# Altium schematic symbol library USBC_to_DP.SchLib: 21 symbols
Pins are listed as number, name and electrical type; pins without a type are passive.

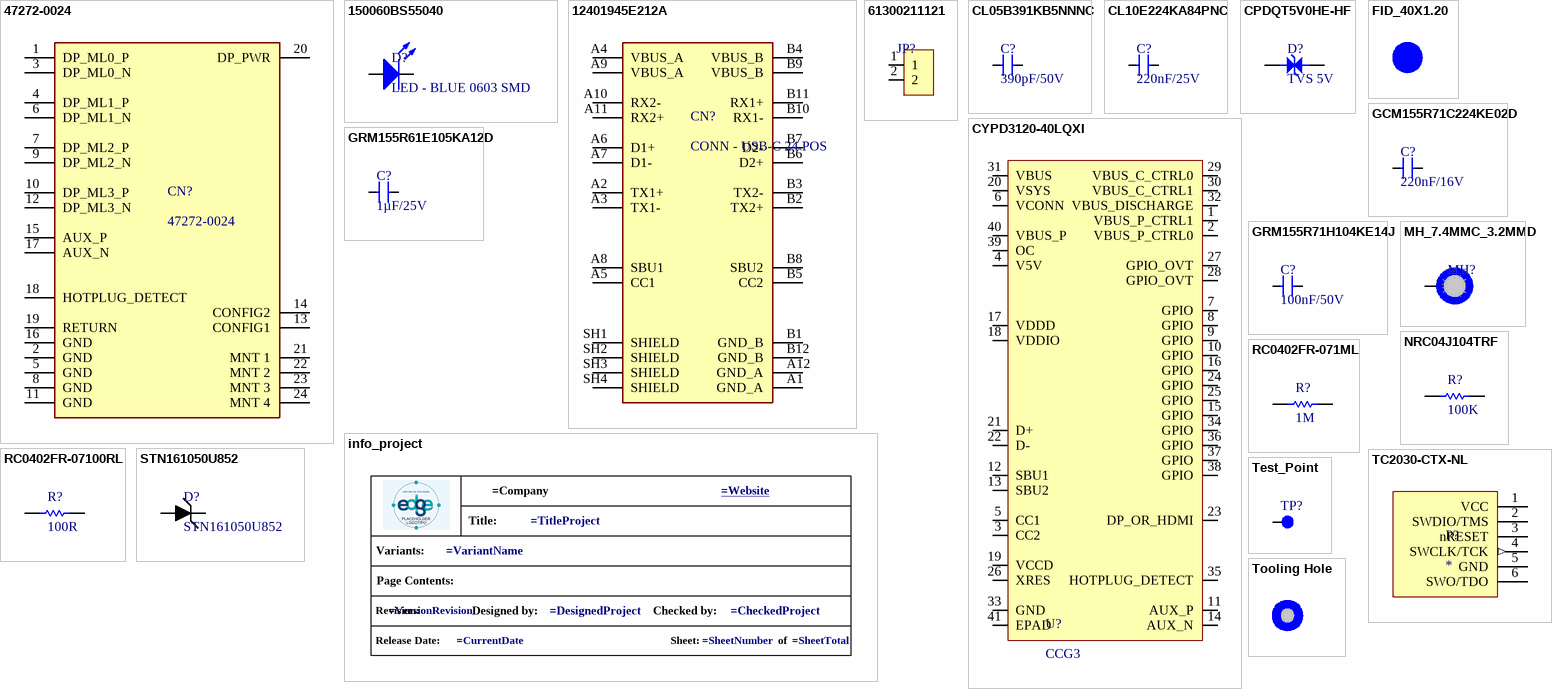
[diagram p0: symbols 47272-0024 to Tooling Hole]

## 47272-0024
designator CN?
CONN - DisplayPort 20 POS; Manufacturer: Molex; Supplier: Mouser; Supplier Part Number: 538-47272-0024; Manufacturer Part Number: 47272-0024; RoHS: Yes; Category: Audio / Video Connectors; Stock: 4176; Pricing: 1=4,7, 10=4,31, 50=4,31, 100=3,71, 1000=2,96, 10000=2,86 (USD); ComponentLink1URL: https://datasheet.ciiva.com:443/pdfs/VipMasterIC/IC/MOLE/MOLE-S-A0003538154/MOLE-S-A0003534946-1.pdf?src-supplier=IHS+Markit; ComponentLink1Description: https://datasheet.ciiva.com:443/pdfs/VipMasterIC/IC/MOLE/MOLE-S-A0003538154/MOLE-S-A0003534946-1.pdf?src-supplier=IHS+Markit
footprint FP-47272-0024-MFG
pins: 1 DP_ML0_P, 2 GND (power), 3 DP_ML0_N, 4 DP_ML1_P, 5 GND (power), 6 DP_ML1_N, 7 DP_ML2_P, 8 GND (power), 9 DP_ML2_N, 10 DP_ML3_P, 11 GND (power), 12 DP_ML3_N, 13 CONFIG1, 14 CONFIG2, 15 AUX_P, 16 GND (power), 17 AUX_N, 18 HOTPLUG_DETECT, 19 RETURN, 20 DP_PWR, 21 MNT 1, 22 MNT 2, 23 MNT 3, 24 MNT 4

## 150060BS55040
designator D?, comment LED - BLUE 0603 SMD
Manufacturer: Wurth Electronics; Manufacturer Part Number: 150060BS55040; Optoelectronic Device Type: SINGLE COLOR LED; Supplier: Digikey; Supplier Part Number: 732-12013-1-ND; RoHS: Yes; Category: LEDs; Stock: 26973; Pricing: 1=0,18, 10=0,173, 100=0,157, 500=0,141, 1000=0,125 (USD); Reach SVHC Compliant: Yes; RoHS Compliant: Yes; ComponentLink1URL: https://datasheet.ciiva.com:443/pdfs/VipMasterIC/IC/MIDC/MIDC-S-A0006621110/MIDC-S-A0006621110-1.pdf?src-supplier=IHS+Markit; ComponentLink1Description: https://datasheet.ciiva.com:443/pdfs/VipMasterIC/IC/MIDC/MIDC-S-A0006621110/MIDC-S-A0006621110-1.pdf?src-supplier=IHS+Markit; ComponentLink2URL: http://www.farnell.com/datasheets/2621640.pdf?src-supplier=Farnell; ComponentLink2Description: http://www.farnell.com/datasheets/2621640.pdf?src-supplier=Farnell; ComponentLink3URL: https://www.we-online.de/web/en/index.php/download/media/07_electronic_components/download_center_1/application_notes_berichte/ano002_leds___the_future_of_horticultural_lighting/ANO002b_EN_LEDs_The_Future_of_Horticultural_Lighting.pdf?src-supplier=Digikey; ComponentLink3Description: https://www.we-online.de/web/en/index.php/download/media/07_electronic_components/download_center_1/application_notes_berichte/ano002_leds___the_future_of_horticultural_lighting/ANO002b_EN_LEDs_The_Future_of_Horticultural_Lighting.pdf?src-supplier=Digikey; ComponentLink4URL: http://www.farnell.com/datasheets/2621640.pdf?src-supplier=Newark; ComponentLink4Description: http://www.farnell.com/datasheets/2621640.pdf?src-supplier=Newark
footprint BLUE LED
pins: 1 K, 2 A

## 12401945E212A
designator CN?, comment CONN - USB-C 24 POS
CONN - USB 3.1 TYPE C RECEPT TOP MNT DI; Manufacturer: Amphenol Communications Solutions; Manufacturer Part Number: 12401945E212A; .Mounting: SMT; Supplier: Digikey; Supplier Part Number: 664-12401945E212ACT-ND; RoHS: No; Stock: 11867; Pricing: 1=1,14, 10=0,994, 25=0,952, 50=0,931, 100=0,8886, 250=0,804, 500=0,74498 (USD); .SCHChecked: *; .PCBChecked: *
footprint AMPHENOL_12401945E212A
pins: A1 GND_A (power), A2 TX1+, A3 TX1-, A4 VBUS_A, A5 CC1, A6 D1+, A7 D1-, A8 SBU1, A9 VBUS_A, A10 RX2-, A11 RX2+, A12 GND_A (power), B1 GND_B (power), B2 TX2+, B3 TX2-, B4 VBUS_B, B5 CC2, B6 D2+, B7 D2-, B8 SBU2, B9 VBUS_B, B10 RX1-, B11 RX1+, B12 GND_B (power), SH1 SHIELD, SH2 SHIELD, SH3 SHIELD, SH4 SHIELD

## 61300211121
designator JP?, comment Header 2-pin  (value not drawn)
Board Connector, 2 Contact(s), 1 Row(s), Male, Straight, 0.1 inch Pitch, Solder Terminal, Locking, Black Insulator, Plug; Manufacturer: Wurth Electronics; Manufacturer Part Number: 61300211121; Option: General Purpose; Contact Pattern: RECTANGULAR; Contact Resistance: 20mR; Contact Style: SQ PIN-SKT; Dielectric Withstanding Voltage (AC): 500V; Filter Feature: No; Insulation Resistance: 1GR; Number Of Connectors: 1; Rated Current (Signal): 3A; Number of Contacts: 2; Body Length: 0.2inch; Reference Standard: UL; Reliability: COMMERCIAL; Supplier: Digikey; Supplier Part Number: 732-5315-ND; RoHS: Yes; Category: Headers and Wire Housings; Stock: 86589; Pricing: 1=0,13, 10=0,113, 25=0,094, 50=0,079, 100=0,071, 1000=0,065 (USD); Mounting Technology: Board; Contact Material: Copper Alloy; Contact Finish - Mating: GOLD; Contact Finish - Termination: Gold (Au) - with Nickel (Ni) barrier; Insulation Color: Black; Insulation Material: Polybutylene; Min Operating Temperature: -40°C; Max Operating Temperature: 125°C; Connector Type: BOARD CONNECTOR; JESD-609 Code: e4; Body/Shell Style: PLUG; Contact Gender: Male; Mixed Contacts: No; Mounting Style: STRAIGHT; Number of Rows Loaded: 1; PCB Contact Pattern: RECTANGULAR; Termination: Solder; Body Breadth: 0.1inch; Body Depth: 0.1inch; Mating Contact Pitch: 0.1inch; Mounting Option 1: LOCKING; Terminal Length: 0.118inch; Terminal Pitch: 2.54mm; Flammability Rating: UL94 V-0; Reach SVHC Compliant: Yes; RoHS Compliant: Yes; DIN Conformance: No; IEC Conformance: No; MIL Conformance: No; ComponentLink1URL: https://datasheet.ciiva.com:443/pdfs/VipMasterIC/IC/MIDC/MIDCS07676/MIDCS07676-1.pdf?src-supplier=IHS+Markit; ComponentLink1Description: https://datasheet.ciiva.com:443/pdfs/VipMasterIC/IC/MIDC/MIDCS07676/MIDCS07676-1.pdf?src-supplier=IHS+Markit; ComponentLink2URL: https://datasheet.ciiva.com/13619/6130xx11121-48870-13619345.pdf?src-supplier=Mouser; ComponentLink2Description: https://datasheet.ciiva.com/13619/6130xx11121-48870-13619345.pdf?src-supplier=Mouser
footprint Hdr_1x2_2.54mm
pins: 1, 2

## CL05B391KB5NNNC
designator C?, comment 390pF/50V
MLCC - 390pF 50V 0402 X7R ±10%; Manufacturer: Samsung; Manufacturer Part Number: CL05B391KB5NNNC; Dielectric Material: Ceramic; Multilayer: Yes; Supplier: Digikey; Supplier Part Number: 1276-1560-1-ND; RoHS: Yes; Category: Ceramic Capacitors; Stock: 1329478; Pricing: 1=0,1, 10=0,023, 50=0,0132, 100=0,0102, 500=0,00766, 1000=0,00601, 2500=0,00547, 5000=0,00503 (USD); Mounting Technology: Surface Mount; Pins: 2; Package Shape: Rectangular; Case/Package: 0402; Terminal Finish: Nickel; Min Operating Temperature: -55°C; Max Operating Temperature: 125°C; JESD-609 Code: e3; Value: 390pF; Capacitor Type: Ceramic; Tolerance  (fill in as +-): 10%; Package Style: SMTMeter; Packaging: Tape and Reel; Tolerance (fill in as +-): 10%; Rated DC Voltage (URdc): 50V; Temperature Characteristics Code: X7R; Termination: Wraparound; Length: 1mm; Width: 0.5mm; Height: 0.55mm; Reach SVHC Compliant: Yes; RoHS Compliant: Yes; ComponentLink1URL: https://datasheet.ciiva.com:443/pdfs/VipMasterIC/IC/SEMS/SEMS-S-A0008384515/SEMS-S-A0008873249-1.pdf?src-supplier=IHS+Markit; ComponentLink1Description: https://datasheet.ciiva.com:443/pdfs/VipMasterIC/IC/SEMS/SEMS-S-A0008384515/SEMS-S-A0008873249-1.pdf?src-supplier=IHS+Markit; ComponentLink2URL: https://datasheet.ciiva.com/26838/getdatasheetpartid-660062-26838242.pdf?src-supplier=Verical; ComponentLink2Description: https://datasheet.ciiva.com/26838/getdatasheetpartid-660062-26838242.pdf?src-supplier=Verical; ComponentLink3URL: https://datasheet.ciiva.com/25738/cl05b391kb5nnnc-25738709.pdf?src-supplier=Digikey; ComponentLink3Description: https://datasheet.ciiva.com/25738/cl05b391kb5nnnc-25738709.pdf?src-supplier=Digikey; ComponentLink4URL: https://datasheet.ciiva.com/16202/cl05b104kq5nnnc-16202591.pdf?src-supplier=Future+Electronics; ComponentLink4Description: https://datasheet.ciiva.com/16202/cl05b104kq5nnnc-16202591.pdf?src-supplier=Future+Electronics
footprint C0402
pins: 1, 2

## CL10E224KA84PNC
designator C?, comment 220nF/25V
MLCC - 220nF 25V 0603 X8L ±10%; Manufacturer: Samsung; Manufacturer Part Number: CL10E224KA84PNC; Supplier: Digikey; Supplier Part Number: 1276-CL10E224KA84PNCCT-ND; RoHS: No; Category: Ceramic Capacitors; Stock: 89389; Pricing: 1=0,17, 10=0,109, 50=0,0688, 100=0,055, 500=0,03976, 1000=0,03517 (USD)
footprint C0603
pins: 1, 2

## CPDQT5V0HE-HF
designator D?, comment TVS 5V
TVS - DIODE ESD 5VWM 65W 0402/SOD-923F; Manufacturer: Comchip; Manufacturer Part Number: CPDQT5V0HE-HF; .Mounting: SMT; Supplier: Digikey; Supplier Part Number: 641-CPDQT5V0HE-HFCT-ND; RoHS: No; Stock: 4223; Pricing: 1=0,17, 10=0,149, 100=0,059, 500=0,04016, 1000=0,0352, 2000=0,03099, 5000=0,02642 (USD); .SCHChecked: *; .PCBChecked: *
footprint STN161050U852
pins: 1, 2

## CYPD3120-40LQXI
designator U?, comment CCG3
USB-C Controller (CCG3); Manufacturer: Infineon; Manufacturer Part Number: CYPD3120-40LQXI; Supplier: Digikey; Supplier Part Number: 448-CYPD3120-40LQXI-ND; RoHS: Yes; Stock: 2191; Pricing: 1=3,28, 10=2,401, 25=2,182, 80=2,1 (USD); Reach SVHC Compliant: Yes; RoHS Compliant: Yes
footprint QFN50P600X600X60_HS-41N (QFN, 40-Leads, Body 6,00x6,00mm, Pitch 0,50mm, Thermal Pad 4,60x4,60mm, IPC Medium Density)
pins: 1 VBUS_P_CTRL1, 2 VBUS_P_CTRL0, 3 CC2, 4 V5V, 5 CC1, 6 VCONN, 7 GPIO, 8 GPIO, 9 GPIO, 10 GPIO, 11 AUX_P, 12 SBU1, 13 SBU2, 14 AUX_N, 15 GPIO, 16 GPIO, 17 VDDD, 18 VDDIO, 19 VCCD, 20 VSYS, 21 D+, 22 D-, 23 DP_OR_HDMI, 24 GPIO, 25 GPIO, 26 XRES, 27 GPIO_OVT, 28 GPIO_OVT, 29 VBUS_C_CTRL0, 30 VBUS_C_CTRL1, 31 VBUS, 32 VBUS_DISCHARGE, 33 GND, 34 GPIO, 35 HOTPLUG_DETECT, 36 GPIO, 37 GPIO, 38 GPIO, 39 OC, 40 VBUS_P, 41 EPAD

## FID_40X1.20
designator FID?  (value not drawn)  (no BOM)
Fiducials
footprint FID_40X1.20

## GCM155R71C224KE02D
designator C?, comment 220nF/16V
MLCC - 220nF 16V 0402 X7R ±10%; Manufacturer: Murata; Manufacturer Part Number: GCM155R71C224KE02D; Description: Ceramic Capacitor, Multilayer, Ceramic, 16V, 10% +Tol, 10% -Tol, X7R, 15% TC, 0.22uF, Surface Mount, 0402; Dielectric Material: Ceramic; Multilayer: Yes; Reference Standard: AEC-Q200; Supplier: Future Electronics; Supplier Part Number: 7050660; RoHS: Yes; Category: Ceramic Capacitors; Stock: 70000; Pricing: 10000=0,0108, 30000=0,0105, 50000=0,0104, 150000=0,0101, 250000=0,0098 (USD); Mounting Technology: Surface Mount; Pins: 2; Package Shape: Rectangular; Case/Package: 0402; Terminal Finish: Nickel; Min Operating Temperature: -55°C; Max Operating Temperature: 125°C; JESD-609 Code: e3; Value: 220nF; Capacitor Type: Ceramic; Tolerance  (fill in as +-): 10%; Package Style: SMTMeter; Packaging: Tape and Reel; Tolerance (fill in as +-): 10%; Rated DC Voltage (URdc): 16V; Temperature Characteristics Code: X7R; Termination: Wraparound; Length: 1mm; Width: 0.5mm; Height: 0.55mm; Reach SVHC Compliant: Yes; RoHS Compliant: Yes; ComponentLink1URL: https://datasheet.ciiva.com:443/pdfs/VipMasterIC/IC/MURE/MURE-S-A0004370842/MURE-S-A0004372487-1.pdf?src-supplier=IHS+Markit; ComponentLink1Description: https://datasheet.ciiva.com:443/pdfs/VipMasterIC/IC/MURE/MURE-S-A0004370842/MURE-S-A0004372487-1.pdf?src-supplier=IHS+Markit; ComponentLink2URL: http://www.mouser.com/ds/2/281/c03e-806517.pdf?src-supplier=Mouser; ComponentLink2Description: http://www.mouser.com/ds/2/281/c03e-806517.pdf?src-supplier=Mouser; ComponentLink3URL: http://search.murata.co.jp/Ceramy/image/img/A01X/partnumbering_e_02.pdf?src-supplier=Digikey; ComponentLink3Description: http://search.murata.co.jp/Ceramy/image/img/A01X/partnumbering_e_02.pdf?src-supplier=Digikey; ComponentLink4URL: https://datasheet.octopart.com/GCM155R71C224KE02D-Murata-datasheet-32042419.pdf?src-supplier=Future+Electronics; ComponentLink4Description: https://datasheet.octopart.com/GCM155R71C224KE02D-Murata-datasheet-32042419.pdf?src-supplier=Future+Electronics; ComponentLink5URL: https://datasheet.octopart.com/GCM155R71C224KE02D-Murata-datasheet-149522429.pdf?src-supplier=Newark; ComponentLink5Description: https://datasheet.octopart.com/GCM155R71C224KE02D-Murata-datasheet-149522429.pdf?src-supplier=Newark; ComponentLink6URL: https://datasheet.octopart.com/GCM155R71C224KE02D-Murata-datasheet-12511495.pdf?src-supplier=TME; ComponentLink6Description: https://datasheet.octopart.com/GCM155R71C224KE02D-Murata-datasheet-12511495.pdf?src-supplier=TME
footprint C0402
pins: 1, 2

## GRM155R61E105KA12D
designator C?, comment 1µF/25V
MLCC - 1µF 25V 0402 X5R ±10%; Manufacturer 1: Murata; Manufacturer Part Number 1: GRM155R61E105KA12D; Material: Ceramic; Value: 1uF; .Mounting: SMT; .PCBChecked: Victor H; Supplier 1: Digikey; RoHS: Yes; Category: Ceramic Capacitors; Stock 1: 973671; Pricing 1: 1=0,1, 10=0,039, 50=0,0222, 100=0,0172, 500=0,01298, 1000=0,0102, 2500=0,00927, 5000=0,00853 (USD); Mounting Technology: Surface Mount; Case/Package: 0402; Case Code (Metric): 1005; Case Code (Imperial): 0402; Weight: 0.000212oz; Min Operating Temperature: -55°C; Max Operating Temperature: 85°C; Tolerance: 10%; Voltage Rating: 25V; Packaging: Cut Tape; Dielectric: X5R; Voltage: 25V; Termination: SMD/SMT; Voltage Rating (DC): 25V; Package Quantity: 10000; Series: GRM; Length: 1mm; Width: 0.5mm; Height: 0.5mm; Thickness: 0.022inch; Depth: 0.5mm; Reach SVHC Compliant: No; Lead Free: Lead Free; RoHS Compliant: Yes; ComponentLink1URL: https://datasheet.ciiva.com/7719/1666664-7719006.pdf?src-supplier=Element14; ComponentLink1Description: https://datasheet.ciiva.com/7719/1666664-7719006.pdf?src-supplier=Element14; ComponentLink2URL: https://datasheet.ciiva.com/22732/1666664-22732122.pdf?src-supplier=Element14; ComponentLink2Description: https://datasheet.ciiva.com/22732/1666664-22732122.pdf?src-supplier=Element14; Supplier Part Number 1: 490-10017-1-ND; .SCHChecked: Victor H
footprint C0402
pins: 1, 2

## GRM155R71H104KE14J
designator C?, comment 100nF/50V
MLCC - 100nF 50V 0402 X7R ±10%; Manufacturer 1: Murata; Manufacturer Part Number 1: GRM155R71H104KE14J; Material: 4241ConductorMaterial; .Mounting: SMT; .PCBChecked: Victor H; Supplier 1: Digikey; RoHS: Yes; Category: Ceramic Capacitors; Stock 1: 4903636; Pricing 1: 1=0,1, 10=0,026, 50=0,0148, 100=0,0115, 500=0,00866, 1000=0,0068, 2500=0,00618, 5000=0,00569 (USD); Mounting Technology: Surface Mount; Case/Package: 0402; Pins: 2NUMBER; Case Code (Metric): 1005; Case Code (Imperial): 0402; Weight: 0.000212oz; Min Operating Temperature: -55°C; Max Operating Temperature: 125°C; Packaging: Tape and Reel; Value: 100nF; Voltage Rating: 50V; Tolerance: 10%; Dielectric: X7R; Termination: SMD/SMT; Voltage Rating (DC): 50V; Package Quantity: 50000; Series: GRM; Length: 0.039inch; Width: 0.02inch; Height: 0.5mm; Thickness: 0.022inch; Lead Free: Lead Free; RoHS Compliant: Yes; ComponentLink1URL: https://datasheet.octopart.com/GRM155R71H104KE14J-Murata-datasheet-155345058.pdf?src-supplier=Element14; ComponentLink1Description: https://datasheet.octopart.com/GRM155R71H104KE14J-Murata-datasheet-155345058.pdf?src-supplier=Element14; ComponentLink2URL: http://search.murata.co.jp/Ceramy/image/img/A01X/G101/ENG/GRM155R71H104KE14-01.pdf?src-supplier=Digikey; ComponentLink2Description: http://search.murata.co.jp/Ceramy/image/img/A01X/G101/ENG/GRM155R71H104KE14-01.pdf?src-supplier=Digikey; ComponentLink3URL: https://datasheet.octopart.com/GRM155R71H104KE14J-Murata-datasheet-32479577.pdf?src-supplier=Future+Electronics; ComponentLink3Description: https://datasheet.octopart.com/GRM155R71H104KE14J-Murata-datasheet-32479577.pdf?src-supplier=Future+Electronics; ComponentLink4URL: http://search.murata.co.jp/Ceramy/image/img/A01X/G101/ENG/GRM155R71H104KE14-01.pdf?src-supplier=Mouser; ComponentLink4Description: http://search.murata.co.jp/Ceramy/image/img/A01X/G101/ENG/GRM155R71H104KE14-01.pdf?src-supplier=Mouser; ComponentLink5URL: http://search.murata.co.jp/Ceramy/image/img/A01X/G101/ENG/GRM155R71H104KE14-01.pdf?src-supplier=Avnet; ComponentLink5Description: http://search.murata.co.jp/Ceramy/image/img/A01X/G101/ENG/GRM155R71H104KE14-01.pdf?src-supplier=Avnet; ComponentLink6URL: https://datasheet.octopart.com/GRM155R71H104KE14J-Murata-datasheet-165579666.pdf?src-supplier=TME; ComponentLink6Description: https://datasheet.octopart.com/GRM155R71H104KE14J-Murata-datasheet-165579666.pdf?src-supplier=TME; Supplier Part Number 1: 490-13342-1-ND; .SCHChecked: Victor H
footprint C0402
pins: 1, 2

## info_project
designator GPH?  (value not drawn)  (graphical)
GRAPHICAL - Info Project
text: Title:; Variants:; Page Contents:; Revision:; Designed by:; Checked by:; Release Date:; Sheet:; of

## MH_7.4MMC_3.2MMD
designator MH?  (value not drawn)  (no BOM)
Mounting Hole 7.4mm Diameter 3.2mm Drill
footprint MH_7.4MMC_3.2MMD
pins: 1

## NRC04J104TRF
designator R?, comment 100K
RES - 100K 1/16W 0402 ±5%; Manufacturer 1: NIC Components; Manufacturer Part Number 1: NRC04J104TRF; Power: 63mW; Rated Temperature: 70°C; Value: 100kR; Temperature Coefficient: 200ppm/°C; Working Voltage: 50V; Package Height: 0.3mm; Package Length: 1mm; Package Width: 0.5mm; Reference Standard: AEC-Q200; .Mounting: SMT; Supplier 1: Digikey; RoHS: Yes; Category: Chip SMD Resistors; Stock 1: 99215; Pricing 1: 1=0,1, 10=0,015, 50=0,0094, 100=0,0077, 500=0,00516, 1000=0,00441, 5000=0,00317 (USD); Mounting Technology: Surface Mount; Pins: 2; Package Shape: Rectangular; Case/Package: 0402; Terminal Finish: Nickel; Min Operating Temperature: -55°C; Max Operating Temperature: 155°C; Tolerance: 5%; JESD-609 Code: e3; Resistor Type: FIXED RESISTOR; Construction: Chip; Package Style: SMTMeter; Packaging: Tape and Reel; Technology: METAL GLAZE/THICK FILM; Termination: Wraparound; Reach SVHC Compliant: Yes; RoHS Compliant: Yes; ComponentLink1URL: https://datasheet.ciiva.com:443/pdfs/VipMasterIC/IC/NICC/NICC-S-A0009394622/NICC-S-A0009394622-1.pdf?src-supplier=IHS+Markit; ComponentLink1Description: https://datasheet.ciiva.com:443/pdfs/VipMasterIC/IC/NICC/NICC-S-A0009394622/NICC-S-A0009394622-1.pdf?src-supplier=IHS+Markit; ComponentLink2URL: https://datasheet.ciiva.com/27056/2007839-27056057.pdf?src-supplier=Jameco; ComponentLink2Description: https://datasheet.ciiva.com/27056/2007839-27056057.pdf?src-supplier=Jameco; ComponentLink3URL: https://datasheet.ciiva.com/16394/nrc-16394517.pdf?src-supplier=Future+Electronics; ComponentLink3Description: https://datasheet.ciiva.com/16394/nrc-16394517.pdf?src-supplier=Future+Electronics; ComponentLink4URL: https://datasheet.ciiva.com/9116/nrc-9116760.pdf?src-supplier=Avnet; ComponentLink4Description: https://datasheet.ciiva.com/9116/nrc-9116760.pdf?src-supplier=Avnet; Supplier Part Number 1: 4988-NRC04J104TRFCT-ND
footprint R0402
pins: 1, 2

## RC0402FR-071ML
designator R?, comment 1M
RES - 1M 1/16W 0402 ±1%; Manufacturer: Yageo; Manufacturer Part Number: RC0402FR-071ML; Additional Feature: LASER TRIMMABLE; Power: 62.5mW; Rated Temperature: 70°C; Value: 1MR; Temperature Coefficient: 100ppm/°C; Working Voltage: 50V; Package Height: 0.35mm; Package Length: 1mm; Package Width: 0.5mm; Supplier: Future Electronics; Supplier Part Number: 9919234; RoHS: Yes; Category: Chip SMD Resistors; Stock: 1960000; Pricing: 10000=0,0015, 100000=0,0015, 300000=0,0014, 750000=0,0014, 2000000=0,0013 (USD); Mounting Technology: Surface Mount; Pins: 2; Package Shape: Rectangular; Case/Package: 0402; Terminal Finish: Nickel; Min Operating Temperature: -55°C; Max Operating Temperature: 155°C; Tolerance: 1%; JESD-609 Code: e3; Resistor Type: FIXED RESISTOR; Construction: Chip; Package Style: SMTMeter; Packaging: Tape and Reel; Technology: METAL GLAZE/THICK FILM; Termination: Wraparound; Reach SVHC Compliant: Yes; RoHS Compliant: Yes; ComponentLink1URL: https://datasheet.ciiva.com:443/pdfs/VipMasterIC/IC/YAGO/YAGO-S-A0008145938/YAGO-S-A0008145938-1.pdf?src-supplier=IHS+Markit; ComponentLink1Description: https://datasheet.ciiva.com:443/pdfs/VipMasterIC/IC/YAGO/YAGO-S-A0008145938/YAGO-S-A0008145938-1.pdf?src-supplier=IHS+Markit
footprint R0402
pins: 1, 2

## RC0402FR-07100RL
designator R?, comment 100R
RES - 100R 1/16W 0402 ±1%; Manufacturer: Yageo; Manufacturer Part Number: RC0402FR-07100RL; Additional Feature: LASER TRIMMABLE; Power: 62.5mW; Rated Temperature: 70°C; Temperature Coefficient: 100ppm/°C; Working Voltage: 50V; Package Height: 0.35mm; Package Length: 1mm; Package Width: 0.5mm; Supplier: Digikey; Supplier Part Number: 311-100LRCT-ND; RoHS: Yes; Category: Chip SMD Resistors; Stock: 3392441; Pricing: 1=0,1, 10=0,009, 50=0,0072, 100=0,0051, 500=0,00408, 1000=0,00306 (USD); Mounting Technology: Surface Mount; Pins: 2; Package Shape: Rectangular; Case/Package: 0402; Terminal Finish: Nickel; Min Operating Temperature: -55°C; Max Operating Temperature: 155°C; Tolerance: 1%; JESD-609 Code: e3; Resistor Type: FIXED RESISTOR; Construction: Chip; Packaging: Tape and Reel; Value: 100R; Technology: METAL GLAZE/THICK FILM; Termination: Wraparound; Reach SVHC Compliant: Yes; RoHS Compliant: Yes; ComponentLink1URL: https://datasheet.ciiva.com:443/pdfs/VipMasterIC/IC/YAGO/YAGO-S-A0008145938/YAGO-S-A0008145938-1.pdf?src-supplier=IHS+Markit; ComponentLink1Description: https://datasheet.ciiva.com:443/pdfs/VipMasterIC/IC/YAGO/YAGO-S-A0008145938/YAGO-S-A0008145938-1.pdf?src-supplier=IHS+Markit; ComponentLink2URL: https://datasheet.ciiva.com/11808/0900766b80c66297-11808765.pdf?src-supplier=Rs; ComponentLink2Description: https://datasheet.ciiva.com/11808/0900766b80c66297-11808765.pdf?src-supplier=Rs; ComponentLink3URL: https://datasheet.ciiva.com/7849/1784430-7849810.pdf?src-supplier=Element14; ComponentLink3Description: https://datasheet.ciiva.com/7849/1784430-7849810.pdf?src-supplier=Element14; ComponentLink4URL: https://datasheet.ciiva.com/16740/pyu-rc0402-51-rohs-l-6-r-16740566.pdf?src-supplier=Future+Electronics; ComponentLink4Description: https://datasheet.ciiva.com/16740/pyu-rc0402-51-rohs-l-6-r-16740566.pdf?src-supplier=Future+Electronics; ComponentLink5URL: https://datasheet.ciiva.com/12667/pyu-rc0402-51-rohs-l-6-r-12667957.pdf?src-supplier=Mouser; ComponentLink5Description: https://datasheet.ciiva.com/12667/pyu-rc0402-51-rohs-l-6-r-12667957.pdf?src-supplier=Mouser; ComponentLink6URL: https://datasheet.ciiva.com/22747/1018594-22747511.pdf?src-supplier=Element14; ComponentLink6Description: https://datasheet.ciiva.com/22747/1018594-22747511.pdf?src-supplier=Element14; ComponentLink7URL: https://datasheet.ciiva.com/28367/1018594-28367226.pdf?src-supplier=Element14; ComponentLink7Description: https://datasheet.ciiva.com/28367/1018594-28367226.pdf?src-supplier=Element14; ComponentLink8URL: https://datasheet.ciiva.com/15189/getdatasheetpartid-329466-15189335.pdf?src-supplier=Verical; ComponentLink8Description: https://datasheet.ciiva.com/15189/getdatasheetpartid-329466-15189335.pdf?src-supplier=Verical
footprint R0402
pins: 1, 2

## STN161050U852
designator D?
DIODE - TVS ESD Supp., DFN1610-2L, 5 V | Eaton Electronics STN161050U852; Manufacturer 1: Eaton Bussmann; .PCBChecked: Victor H; .Mounting: SMT; Supplier 1: Digikey; Manufacturer Part Number 1: STN161050U852; RoHS: No; Category: TVS Diodes; Stock 1: 9683; Pricing 1: 1=0,5, 10=0,356, 100=0,1796, 500=0,15918, 1000=0,12387 (USD); Supplier Part Number 1: 283-STN161050U852CT-ND; .SCHChecked: Victor H
footprint STN161050U852
pins: 1, 2

## TC2030-CTX-NL
designator P?  (no BOM)
6 pin Tag-Connect; .SCHChecked: Alex Batista; .PCBChecked: Alex Batista
footprint TC2030-CTX-NL
pins: 1 VCC, 2 SWDIO/TMS, 3 nRESET, 4 SWCLK/TCK (out), 5 GND, 6 SWO/TDO

## Test_Point
designator TP?, comment TestPoint  (value not drawn)  (no BOM)
MECH - Test Points
footprint Test Point
pins: 1

## Tooling Hole
designator TH?  (value not drawn)  (no BOM)
MECH - Tooling Holes
footprint Tooling Hole